# EAGLE library part BOB-09056 (library plataformaEXP)
Switch Development Tools A/D MUX Breakout CD74HC4067 Check prices <https://pricing.snapeda.com/parts/BOB-09056/SparkFun%20Electronics/view-part?ref=eda>
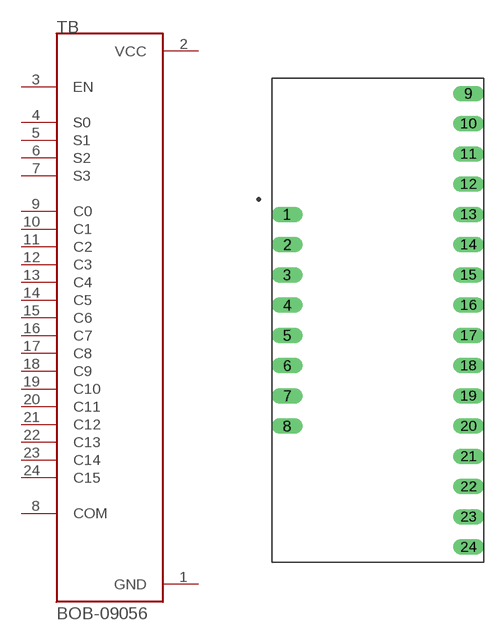
[diagram p5: symbol with the pads of XDCR_BOB-09056; footprint XDCR_BOB-09056]

Designator prefix TB

## BOB-09056 (AVAILABILITY: In Stock; DESCRIPTION: 74HC4067 Analog and Digital Switch Interface Evaluation Board; MF: SparkFun Electronics; MP: BOB-09056; PACKAGE: None; PRICE: None; PURCHASE-URL: https://pricing.snapeda.com/search/part/BOB-09056/?ref=eda)  [XDCR_BOB-09056]
1  GND  pwr
2  VCC  pwr
3  EN  in
4  S0  in
5  S1  in
6  S2  in
7  S3  in
8  COM
9  C0  in
10  C1  in
11  C2  in
12  C3  in
13  C4  in
14  C5  in
15  C6  in
16  C7  in
17  C8  in
18  C9  in
19  C10  in
20  C11  in
21  C12  in
22  C13  in
23  C14  in
24  C15  in

## Footprint XDCR_BOB-09056 (pad centres in mm)
drill 0.813 long: 1 -7.62,8.89; 2 -7.62,6.35; 3 -7.62,3.81; 4 -7.62,1.27; 5 -7.62,-1.27; 6 -7.62,-3.81; 7 -7.62,-6.35; 8 -7.62,-8.89; 9 7.62,19.05; 10 7.62,16.51; 11 7.62,13.97; 12 7.62,11.43; 13 7.62,8.89; 14 7.62,6.35; 15 7.62,3.81; 16 7.62,1.27; 17 7.62,-1.27; 18 7.62,-3.81; 19 7.62,-6.35; 20 7.62,-8.89; 21 7.62,-11.43; 22 7.62,-13.97; 23 7.62,-16.51; 24 7.62,-19.05